# Altium footprint library Microver.PcbLib: 18 footprints (part 1 of 2)
Each footprint in its own frame and in the unit in brackets; x right, y up, seen from the top. Pads: shape width x height; smd on the part's side, far side on the other; paste and mask are expansions set on the pad; w line width, h text height; cw(c..) or ccw(c..) is an arc to the next point about the centre after c.
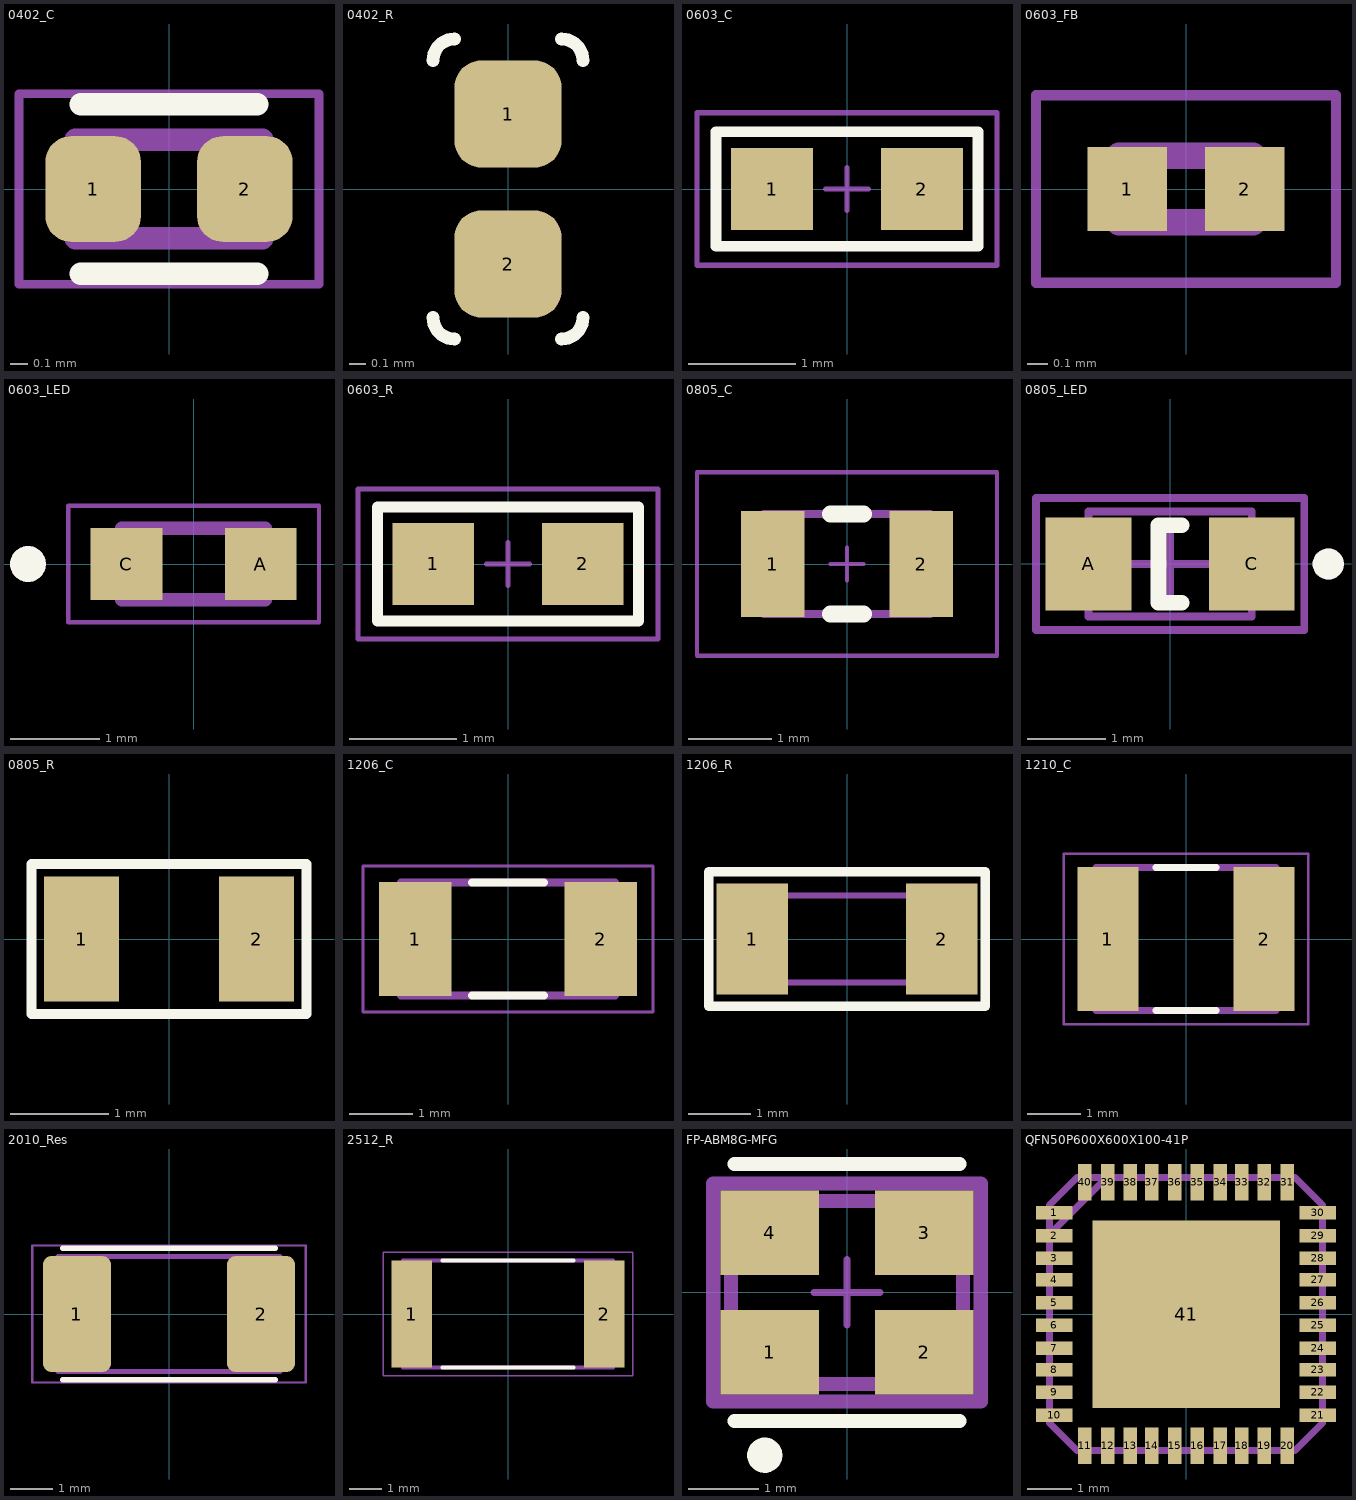
[diagram p0: the footprints below, top view; thin cyan lines are the x and y axes]

## 0402_C [mm]
pads (2):
  rrect53% 0.54x0.6 smd: 1(-0.43,0) 2(0.43,0)
Top Overlay:
  lines w0.127: -0.5,-0.48 0.5,-0.48 ; -0.5,0.48 0.5,0.48
Mechanical 13:
  lines w0.127: -0.53,-0.28 0.53,-0.28 0.53,0.28 -0.53,0.28 -0.53,-0.28
Mechanical 15:
  lines w0.05: -0.85,-0.54 0.85,-0.54 0.85,0.54 -0.85,0.54 -0.85,-0.54
3D body "step_temp.STEP": height 0.55, standoff 0, extent -0.5,-0.25 0.5,0.25

## 0402_R [mil]
pads (2):
  rrect50% 25x25 smd: 1(0,17.5) 2(0,-17.5)
Top Overlay:
  lines w3: -17.5,-30 ccw(c-12.5,-30) -12.5,-35 ; -17.5,30 cw(c-12.5,30) -12.5,35 ; 12.5,-35 ccw(c12.5,-30) 17.5,-30 ; 12.5,35 cw(c12.5,30) 17.5,30
3D body "RC0402FR-0733RL.STEP": height 15.75, standoff 0, extent -9.84,-18.9 9.84,20.47

## 0603_C [mil]
pads (2):
  rect 30x30 smd: 1(-27.5,0) 2(27.5,0)
Top Overlay:
  lines w4: -48,-21 48,-21 48,21 -48,21 -48,-21
Mechanical 15:
  lines w1.97: -7.87,0 7.87,0 ; 0,-7.87 0,7.87 ; -55,-28 55,-28 55,28 -55,28 -55,-28
3D body: height 33.46, standoff 0, extent -23.05,-15 23.05,15
3D body: height 33.46, standoff 0, extent 23.1,-15 34.91,15
3D body: height 33.46, standoff 0, extent -34.9,-15 -23.09,15

## 0603_FB [mm]
pads (2):
  rect 0.38x0.4 smd: 1(-0.281,0) 2(0.281,0)
Mechanical 13:
  lines w0.127: -0.32,-0.16 0.32,-0.16 0.32,0.16 -0.32,0.16 -0.32,-0.16
Mechanical 15:
  lines w0.05: -0.718,-0.448 0.718,-0.448 0.718,0.448 -0.718,0.448 -0.718,-0.448
3D body "step_temp.STEP": height 0.33, standoff 0, extent -0.3,-0.15 0.3,0.15

## 0603_LED [mm]
height 0.6
pads (2):
  rect 0.8x0.8 smd: A(0.75,0) C(-0.75,0)
Top Overlay:
  circle w0.2: c-1.85,0 r0.1
Mechanical 13:
  circle w0.2: c-1.85,0 r0.1
  lines w0.152: -0.8,-0.4 -0.8,0.4 0.8,0.4 0.8,-0.4 -0.8,-0.4
Mechanical 15:
  lines w0.05: -1.4,-0.65 1.4,-0.65 1.4,0.65 -1.4,0.65 -1.4,-0.65
3D body "step_temp.STEP": height 0.6, standoff 0, extent -0.8,-0.4 0.8,0.4

## 0603_R [mil]
pads (2):
  rect 30x30 smd: 1(-27.5,0) 2(27.5,0)
Top Overlay:
  lines w4: -48,-21 -48,21 48,21 48,-21 -48,-21
Mechanical 15:
  lines w1.97: -7.87,0 0,0 ; 0,-7.87 0,0 ; 0,7.87 0,0 ; 7.87,0 0,0 ; -55.12,-27.56 55.12,-27.56 55.12,27.56 -55.12,27.56 -55.12,-27.56
3D body: height 23.62, standoff 0, extent -23.04,-15 23.05,15
3D body: height 23.62, standoff 0, extent -34.9,-15 -23.09,15
3D body: height 23.62, standoff 0, extent 23.1,-15 34.91,15

## 0805_C [mil]
pads (2):
  rect 30x50 smd: 1(-35,0) 2(35,0)
Top Overlay:
  lines w7.87: -7.87,-23.62 7.87,-23.62 ; -7.87,23.62 7.87,23.62
Mechanical 13:
  lines w3.94: -31.5,-23.62 -31.5,23.62 ; 31.5,-23.62 31.5,23.62 ; -39.37,-23.62 -39.37,23.62 39.37,23.62 39.37,-23.62 -39.37,-23.62
Mechanical 15:
  lines w1.97: -7.87,0 0,0 ; 0,-7.87 0,7.87 ; 7.87,0 0,0 ; 0,0 0,0 ; -70.87,-43.31 -70.87,43.31 70.87,43.31 70.87,-43.31 -70.87,-43.31
3D body: height 21.65, standoff 0, extent -39.35,-23.6 -31.52,23.6
3D body: height 21.65, standoff 0, extent 31.52,-23.6 39.35,23.6
3D body: height 21.65, standoff 0, extent -31.5,-23.62 31.52,23.62

## 0805_LED [mm]
pads (2):
  rect 1.1x1.2 smd: A(-1.05,0) C(1.05,0)
Top Overlay:
  circle w0.2: c2.032,0 r0.1
  lines w0.2: 0.15,-0.5 -0.15,-0.5 -0.15,0.5 0.15,0.5
Mechanical 1:
  circle w0.2: c2.032,0 r0.1
Mechanical 13:
  lines w0.1: -1.05,-0.675 1.05,-0.675 1.05,0.675 -1.05,0.675 -1.05,-0.675
Mechanical 15:
  lines w0.1: -0.5,0 0.5,0 ; 0,-0.5 0,0.5 ; -1.725,-0.85 1.725,-0.85 1.725,0.85 -1.725,0.85 -1.725,-0.85
3D body "WL-SMCW_0805_LED.stp": height 0.68, standoff -0.02, extent -1,-0.625 1,0.625

## 0805_R [mil]
pads (2):
  rect 30x50 smd: 1(-35,0) 2(35,0)
Top Overlay:
  lines w4: -55,-30 -55,30 55,30 55,-30 -55,-30
3D body "RES0805.stp": height 19.68, standoff 0, extent -39.37,-24.8 39.37,24.41

## 1206_C [mm]
pads (2):
  rect 1.16x1.82 smd: 1(-1.475,0) 2(1.475,0)
Top Overlay:
  lines w0.127: -0.57,-0.9 0.57,-0.9 ; -0.57,0.9 0.57,0.9
Mechanical 13:
  lines w0.127: -1.7,-0.9 -1.7,0.9 1.7,0.9 1.7,-0.9 -1.7,-0.9
Mechanical 15:
  lines w0.05: -2.308,-1.158 -2.308,1.158 2.308,1.158 2.308,-1.158 -2.308,-1.158
3D body "C1206C105K5RACTU.STEP": height 1.1, standoff 0, extent -1.6,-0.8 1.6,0.8

## 1206_R [mil]
pads (2):
  rect 45x70 smd: 1(-60,0) 2(60,0)
Top Overlay:
  lines w6: -87.5,-42.5 87.5,-42.5 87.5,42.5 -87.5,42.5 -87.5,-42.5
Mechanical 13:
  lines w3.94: -60,-27.56 -70.87,-27.56 -70.87,27.56 -60,27.56 ; -60,-27.56 60,-27.56 ; -60,-27.56 -60,27.56 ; -60,27.56 60,27.56 ; 60,-27.56 70.87,-27.56 70.87,27.56 60,27.56 ; 60,-27.56 60,27.56
3D body: height 29.53, standoff 0, extent -70.85,-27.54 -60.02,27.54
3D body: height 29.53, standoff 0, extent 60.02,-27.54 70.85,27.54
3D body: height 29.53, standoff 0, extent -59.98,-27.54 59.98,27.54

## 1210_C [mm]
pads (2):
  rect 1.16x2.72 smd: 1(-1.475,0) 2(1.475,0)
Top Overlay:
  lines w0.127: -0.57,-1.35 0.57,-1.35 ; -0.57,1.35 0.57,1.35
Mechanical 13:
  lines w0.127: -1.7,-1.35 -1.7,1.35 1.7,1.35 1.7,-1.35 -1.7,-1.35
Mechanical 15:
  lines w0.05: -2.308,-1.608 -2.308,1.608 2.308,1.608 2.308,-1.608 -2.308,-1.608
3D body "step_temp.STEP": height 1.9, standoff 0, extent -1.6,-1.25 1.6,1.25

## 2010_Res [mm]
pads (2):
  rrect25% 1.6x2.72 smd: 1(-2.16,0) 2(2.16,0)
Top Overlay:
  lines w0.127: -2.5,-1.54 2.5,-1.54 ; -2.5,1.54 2.5,1.54
Mechanical 13:
  lines w0.127: -2.6,-1.35 -2.6,1.35 2.6,1.35 2.6,-1.35 -2.6,-1.35
Mechanical 15:
  lines w0.05: -3.21,-1.61 -3.21,1.61 3.21,1.61 3.21,-1.61 -3.21,-1.61
3D body "3-1879464-5.stp": height 0.3, standoff -0.3, extent -2.51,-1.24 2.49,1.26

## 2512_R [mm]
pads (2):
  rect 1.26x3.32 smd: 1(-2.975,0) 2(2.975,0)
Top Overlay:
  lines w0.127: -2.02,-1.65 2.02,-1.65 ; -2.02,1.65 2.02,1.65
Mechanical 13:
  lines w0.127: -3.25,-1.65 3.25,-1.65 3.25,1.65 -3.25,1.65 -3.25,-1.65
Mechanical 15:
  lines w0.05: -3.858,-1.908 3.858,-1.908 3.858,1.908 -3.858,1.908 -3.858,-1.908
3D body "CR2512-J_-000ELF.STEP": height 0.75, standoff 0, extent -3.15,-1.55 3.15,1.55

## FP-ABM8G-MFG [mm]
pads (4):
  rect 1.4x1.2 smd paste+0 mask+0: 1(-1.1,-0.85) 2(1.1,-0.85) 3(1.1,0.85) 4(-1.1,0.85)
Top Overlay:
  circle w0.25: c-1.168,-2.311 r0.125
  lines w0.2: -1.6,-1.825 1.6,-1.825 ; -1.6,1.825 1.6,1.825
Top 3D Body:
  lines w0.2: -1.65,-1.3 -1.65,1.3 1.65,1.3 1.65,-1.3 -1.65,-1.3
Top Courtyard:
  lines w0.2: -1.9,-1.55 -1.9,1.55 1.9,1.55 1.9,-1.55 -1.9,-1.55
Top Assembly:
  lines w0.2: -1.9,-1.55 -1.9,1.55 1.9,1.55 1.9,-1.55 -1.9,-1.55
  text ".Designator" at 0.127,-0.111 h0.76
Top Component Center:
  lines w0.1: -0.465,0 0.465,0 ; 0,-0.465 0,0.465
3D body "Crys_Abracon_ABM8G-25_000MHz-B4Y-T_eec.STEP": height 0.25, standoff 0, extent -1.9,-1.55 1.9,1.55

## QFN50P600X600X100-41P [mil]
pads (41):
  rect 32x12 smd: 1(-116,89) 2(-116,69) 3(-116,49) 4(-116,30) 5(-116,10) 6(-116,-10) 7(-116,-30) 8(-116,-49) 9(-116,-69) 10(-116,-89) 21(116,-89) 22(116,-69) 23(116,-49) 24(116,-30) 25(116,-10) 26(116,10) 27(116,30) 28(116,49) 29(116,69) 30(116,89)
  rect 12x32 smd: 11(-89,-116) 12(-69,-116) 13(-49,-116) 14(-30,-116) 15(-10,-116) 16(10,-116) 17(30,-116) 18(49,-116) 19(69,-116) 20(89,-116) 31(89,116) 32(69,116) 33(49,116) 34(30,116) 35(10,116) 36(-10,116) 37(-30,116) 38(-49,116) 39(-69,116) 40(-89,116)
  rect 165x165 smd: 41(0,0)
Mechanical 13:
  lines w6: -120,-95 -120,-83 ; -120,-75 -120,-63 ; -120,-55 -120,-43 ; -120,-36 -120,-24 ; -120,-16 -120,-4 ; -120,4 -120,16 ; -120,24 -120,36 ; -120,43 -120,55 ; -120,63 -120,75 ; -120,70 -70,120 ; -120,83 -120,95 ; -95,-120 -83,-120 ; -95,120 -83,120 ; -75,-120 -63,-120 ; -75,120 -63,120 ; -55,-120 -43,-120 ; -55,120 -43,120 ; -36,-120 -24,-120 ; -36,120 -24,120 ; -16,-120 -4,-120 ; -16,120 -4,120 ; 4,-120 16,-120 ; 4,120 16,120 ; 24,-120 36,-120 ; 24,120 36,120 ; 43,-120 55,-120 ; 43,120 55,120 ; 63,-120 75,-120 ; 63,120 75,120 ; 83,-120 95,-120 ; 83,120 95,120 ; 120,-95 120,-83 ; 120,-75 120,-63 ; 120,-55 120,-43 ; 120,-36 120,-24 ; 120,-16 120,-4 ; 120,4 120,16 ; 120,24 120,36 ; 120,43 120,55 ; 120,63 120,75 ; 120,83 120,95 ; -120,-96 -96,-120 96,-120 120,-96 120,96 96,120 -96,120 -120,96 -120,-96
  text "*" at -180.33,88.16 h50.09
3D body "CP-40-15_ADI.step": height 39.09, standoff 0, extent -120,-120 120,120